# Altium footprint library MKP_Capacitor.PcbLib: 15 footprints
Each footprint in its own frame and in the unit in brackets; x right, y up, seen from the top. Pads: shape width x height; smd on the part's side, far side on the other; paste and mask are expansions set on the pad; w line width, h text height; cw(c..) or ccw(c..) is an arc to the next point about the centre after c.
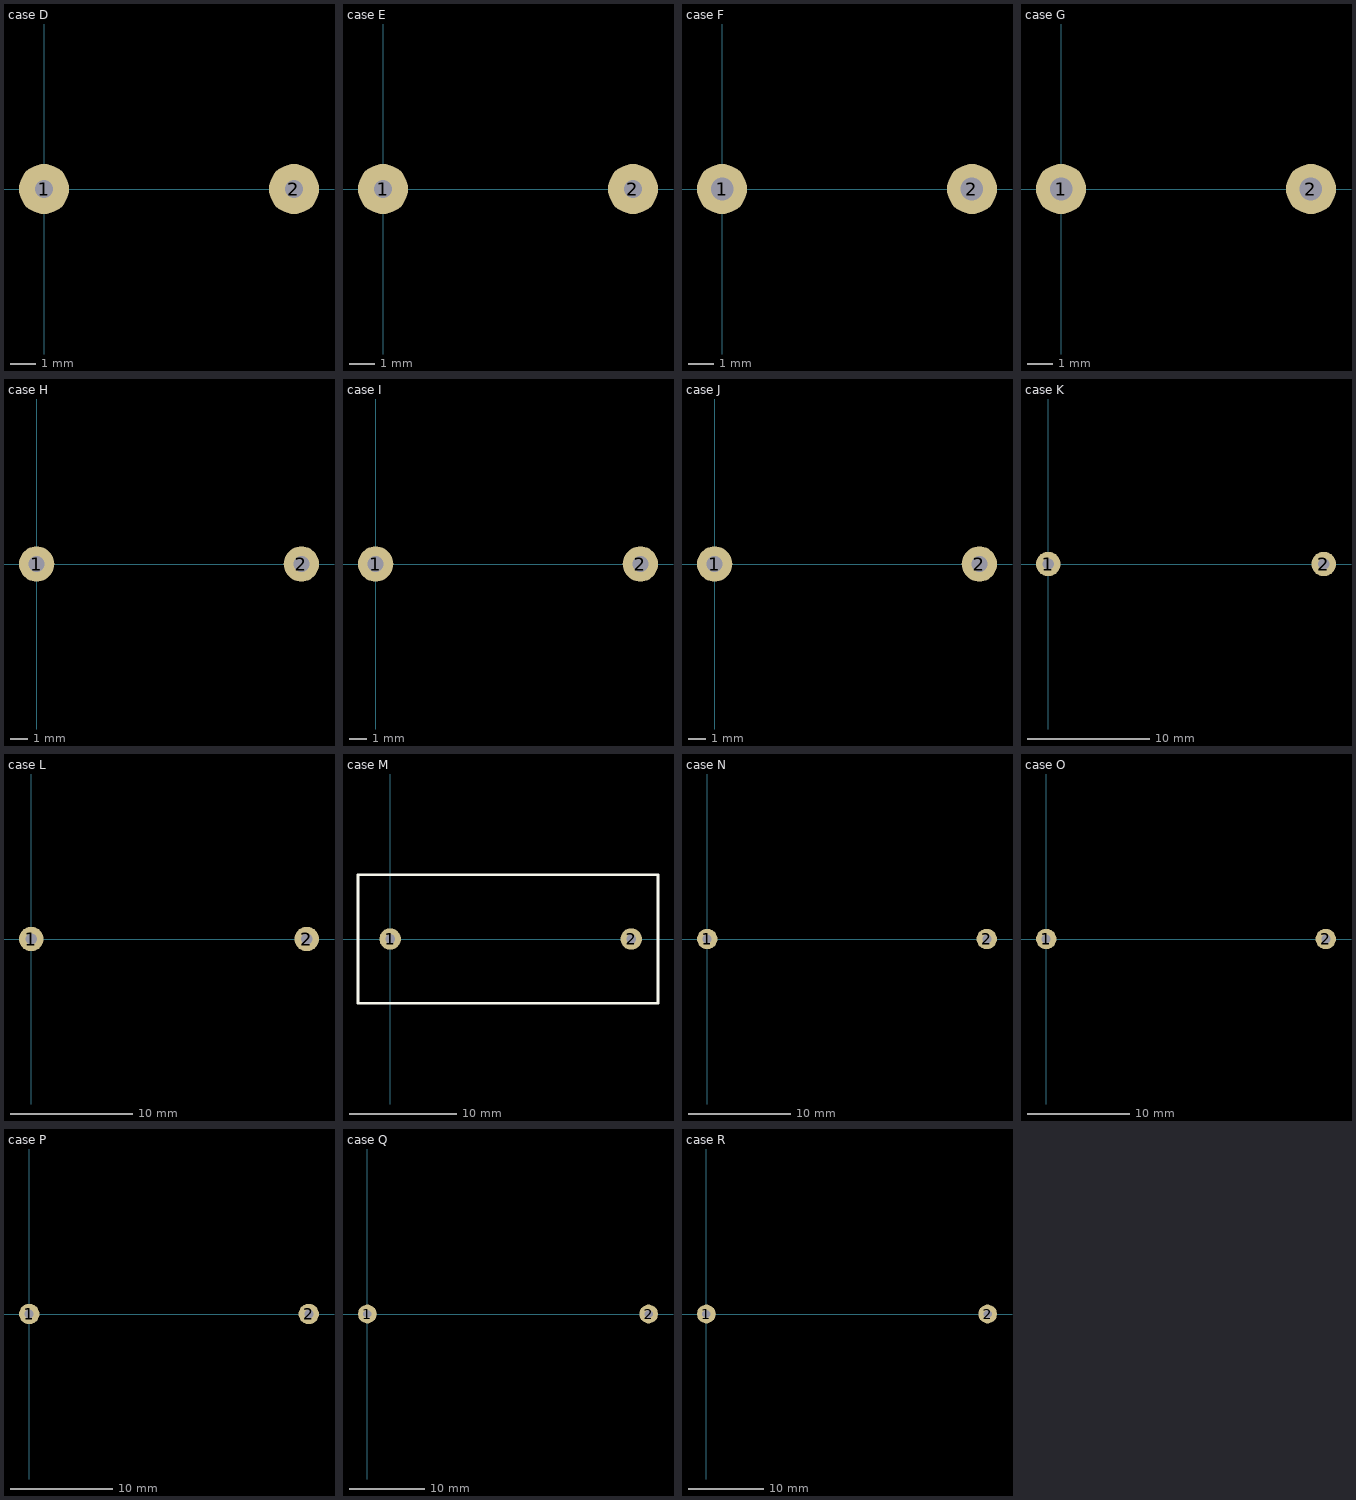
[diagram p0: the footprints below, top view; thin cyan lines are the x and y axes]

## case D [mm]
pads (2):
  round 2 hole 0.7: 1(0,0) 2(10,0)

## case E [mm]
pads (2):
  round 2 hole 0.7: 1(0,0) 2(10,0)

## case F [mm]
pads (2):
  round 2 hole 0.9: 1(0,0) 2(10,0)

## case G [mm]
pads (2):
  round 2 hole 0.9: 1(0,0) 2(10,0)

## case H [mm]
pads (2):
  round 2 hole 0.9: 1(0,0) 2(15,0)

## case I [mm]
pads (2):
  round 2 hole 0.9: 1(0,0) 2(15,0)

## case J [mm]
pads (2):
  round 2 hole 0.9: 1(0,0) 2(15,0)

## case K [mm]
pads (2):
  round 2 hole 0.9: 1(0,0) 2(22.5,0)

## case L [mm]
pads (2):
  round 2 hole 0.9: 1(0,0) 2(22.5,0)

## case M [mm]
pads (2):
  round 2 hole 0.9: 1(0,0) 2(22.5,0)
Top Overlay:
  lines w0.254: -3,-6 -3,6 25,6 25,-6 -3,-6
3D body "case_M.stp": height 19, standoff -5, extent -1.975,-5.275 24.525,5.225

## case N [mm]
pads (2):
  round 2 hole 0.9: 1(0,0) 2(27.5,0)

## case O [mm]
pads (2):
  round 2 hole 0.9: 1(0,0) 2(27.5,0)

## case P [mm]
pads (2):
  round 2 hole 0.9: 1(0,0) 2(27.5,0)

## case Q [mm]
pads (2):
  round 2.5 hole 1.1: 1(0,0) 2(37.5,0)

## case R [mm]
pads (2):
  round 2.5 hole 1.1: 1(0,0) 2(37.5,0)